# EAGLE library part DECODER-WIRE-PADS7 (library trainlib)
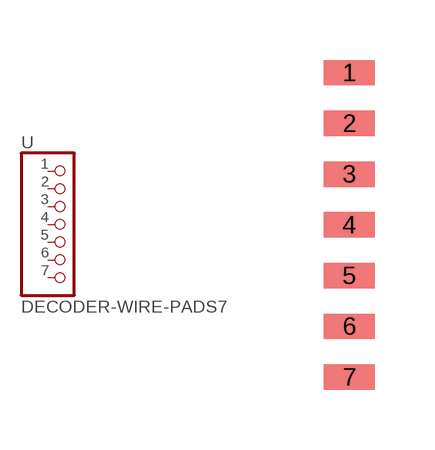
[diagram p12: symbol with the pads of DECODER-WIRE-PADS; footprint DECODER-WIRE-PADS]

Designator prefix -

## DECODER-WIRE-PADS7  [DECODER-WIRE-PADS]
1  1  pas
2  2  pas
3  3  pas
4  4  pas
5  5  pas
6  6  pas
7  7  pas

## Footprint DECODER-WIRE-PADS (pad centres in mm)
smd 1.27 x 0.635: 1 0,3.81; 2 0,2.54; 3 0,1.27; 4 0,0; 5 0,-1.27; 6 0,-2.54; 7 0,-3.81